# EAGLE library part LMD18245T (library LMD18245T)
3A, 55V DMOS Full-Bridge Motor Driver
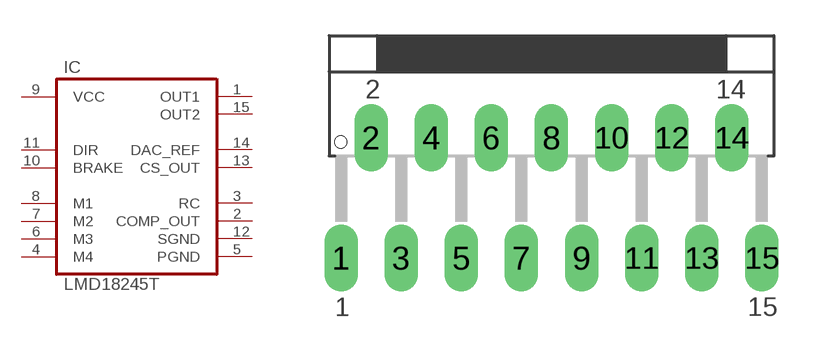
[diagram p0: symbol with the pads of TO-220-15; footprint TO-220-15]

Designator prefix IC

## LMD18245T  [TO-220-15]
1  OUT1  out
2  COMP_OUT  out
3  RC  pas
4  M4  in
5  PGND  pwr
6  M3  in
7  M2  in
8  M1  in
9  VCC  pwr
10  BRAKE  in
11  DIR  in
12  SGND  pwr
13  CS_OUT  pas
14  DAC_REF  pas
15  OUT2  out

## Footprint TO-220-15 (pad centres in mm)
15-Lead TO-220 Molded Power Package
drill 0.305 pad 1.422 long: 1 -10.16,13.97; 2 -8.89,19.05; 3 -7.62,13.97; 4 -6.35,19.05; 5 -5.08,13.97; 6 -3.81,19.05; 7 -2.54,13.97; 8 -1.27,19.05; 9 0,13.97; 10 1.27,19.05; 11 2.54,13.97; 12 3.81,19.05; 13 5.08,13.97; 14 6.35,19.05; 15 7.62,13.97